# Altium footprint library diy-modules.PCBLIB: 111 footprints (part 1 of 7)
Each footprint in its own frame and in the unit in brackets; x right, y up, seen from the top. Pads: shape width x height; smd on the part's side, far side on the other; paste and mask are expansions set on the pad; w line width, h text height; cw(c..) or ccw(c..) is an arc to the next point about the centre after c.
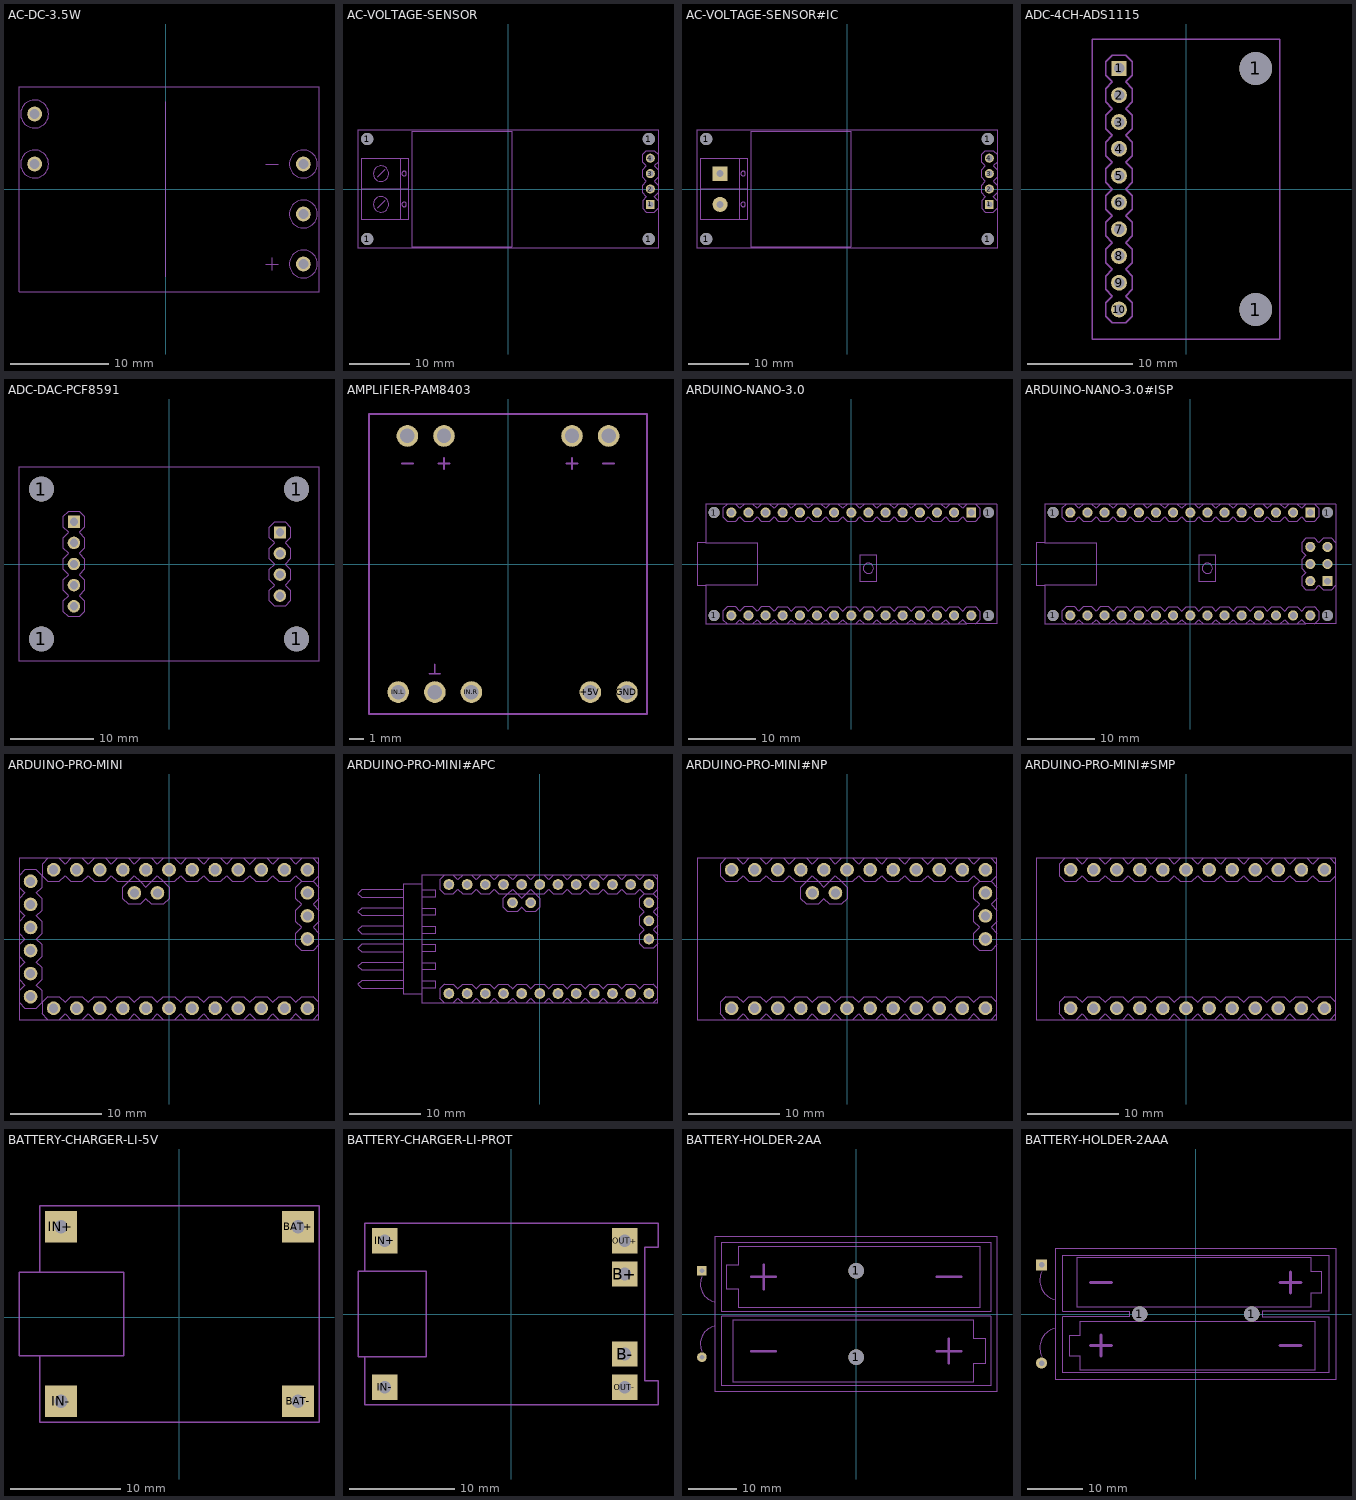
[diagram p0: the footprints below, top view; thin cyan lines are the x and y axes]

## AC-DC-3.5W [mm]
pads (5):
  round 1.5 / inner round 1.524 / far side round 1.5 hole 1: J1.1(-13.335,7.62) J1.2(-13.335,2.54) J2.1(13.97,2.54) J2.2(13.97,-2.54) J2.3(13.97,-7.62)
Mechanical 22:
  circle w0.127: c13.97,-7.62 r1.42
  circle w0.127: c13.97,-2.54 r1.42
  circle w0.127: c13.97,2.54 r1.42
  circle w0.127: c-13.335,2.54 r1.42
  circle w0.127: c-13.335,7.62 r1.42
  lines w0.127: 0,-8.89 0,8.89 ; 10.16,-7.62 11.43,-7.62 ; 10.16,2.54 11.43,2.54 ; 10.795,-8.255 10.795,-6.985 ; -14.922,-10.414 -14.922,10.414 15.557,10.414 15.557,-10.414 -14.922,-10.414

## AC-VOLTAGE-SENSOR [mm]
pads (8):
  round 2 hole 2 unplated: 1(-23.241,-8.255) 1(-23.241,8.255) 1(23.241,-8.255) 1(23.241,8.255)
  rect 1.452x1.452 / inner rect 1.524x1.524 / far side rect 1.452x1.452 hole 1: 1(23.495,-2.54)
  round 1.5 / inner round 1.524 / far side round 1.5 hole 1: 2(23.495,0) 3(23.495,2.54) 4(23.495,5.08)
Mechanical 22:
  circle w0.127: c-20.955,2.54 r1.27
  circle w0.127: c-20.955,-2.54 r1.27
  circle w0.127: c-17.145,2.54 r0.381
  circle w0.127: c-17.145,-2.54 r0.381
  lines w0.127: -21.59,-3.175 -20.32,-1.905 ; -21.59,1.905 -20.32,3.175 ; 24.765,-3.175 24.13,-3.81 22.86,-3.81 22.225,-3.175 22.225,-1.905 22.86,-1.27 22.225,-0.635 22.225,0.635 22.86,1.27 22.225,1.905 22.225,3.175 22.86,3.81 22.225,4.445 22.225,5.715 22.86,6.35 24.13,6.35 24.765,5.715 ; 24.765,-1.905 24.13,-1.27 24.765,-0.635 ; 24.765,0.635 24.13,1.27 24.765,1.905 ; 24.765,3.175 24.13,3.81 24.765,4.445 ; -24.13,0 -24.13,-5.08 -17.78,-5.08 ; -24.13,0 -24.13,5.08 -17.78,5.08 ; -24.13,0 -16.51,0 ; -17.78,-5.08 -16.51,-5.08 -16.51,0 ; -17.78,-5.08 -17.78,5.08 ; -17.78,5.08 -16.51,5.08 -16.51,0 ; -24.765,-9.779 24.765,-9.779 24.765,9.779 -24.765,9.779 -24.765,-9.779 ; -15.875,-9.525 -15.875,9.525 0.635,9.525 0.635,-9.525 -15.875,-9.525

## AC-VOLTAGE-SENSOR#IC [mm]
pads (10):
  round 2 hole 2 unplated: 1(-23.241,-8.255) 1(-23.241,8.255) 1(23.241,-8.255) 1(23.241,8.255)
  rect 1.452x1.452 / inner rect 1.524x1.524 / far side rect 1.452x1.452 hole 1: 1(23.495,-2.54)
  round 1.5 / inner round 1.524 / far side round 1.5 hole 1: 2(23.495,0) 3(23.495,2.54) 4(23.495,5.08)
  rect 2.421x2.421 / inner rect 1.524x1.524 / far side rect 2.421x2.421 hole 1.2: P1.1(-20.955,2.54)
  round 2.5 / inner round 1.524 / far side round 2.5 hole 1.2: P1.2(-20.955,-2.54)
Mechanical 22:
  circle w0.127: c-17.145,2.54 r0.381
  circle w0.127: c-17.145,-2.54 r0.381
  lines w0.127: 24.765,-3.175 24.13,-3.81 22.86,-3.81 22.225,-3.175 22.225,-1.905 22.86,-1.27 22.225,-0.635 22.225,0.635 22.86,1.27 22.225,1.905 22.225,3.175 22.86,3.81 22.225,4.445 22.225,5.715 22.86,6.35 24.13,6.35 24.765,5.715 ; 24.765,-1.905 24.13,-1.27 24.765,-0.635 ; 24.765,0.635 24.13,1.27 24.765,1.905 ; 24.765,3.175 24.13,3.81 24.765,4.445 ; -24.13,0 -24.13,-5.08 -17.78,-5.08 ; -24.13,0 -24.13,5.08 -17.78,5.08 ; -24.13,0 -16.51,0 ; -17.78,-5.08 -16.51,-5.08 -16.51,0 ; -17.78,-5.08 -17.78,5.08 ; -17.78,5.08 -16.51,5.08 -16.51,0 ; -24.765,-9.779 24.765,-9.779 24.765,9.779 -24.765,9.779 -24.765,-9.779 ; -15.875,-9.525 -15.875,9.525 0.635,9.525 0.635,-9.525 -15.875,-9.525

## ADC-4CH-ADS1115 [mm]
pads (12):
  rect 1.452x1.452 / inner rect 1.524x1.524 / far side rect 1.452x1.452 hole 1: 1(-6.35,11.43)
  round 3.1 hole 3.1 unplated: 1(6.604,-11.43) 1(6.604,11.43)
  round 1.5 / inner round 1.524 / far side round 1.5 hole 1: 2(-6.35,8.89) 3(-6.35,6.35) 4(-6.35,3.81) 5(-6.35,1.27) 6(-6.35,-1.27) 7(-6.35,-3.81) 8(-6.35,-6.35) 9(-6.35,-8.89) 10(-6.35,-11.43)
Mechanical 22:
  lines w0.127: -8.89,-14.224 8.89,-14.224 8.89,14.224 -8.89,14.224 -8.89,-14.224 ; -7.62,-12.065 -7.62,-10.795 -6.985,-10.16 -7.62,-9.525 -7.62,-8.255 -6.985,-7.62 -7.62,-6.985 -7.62,-5.715 -6.985,-5.08 -7.62,-4.445 -7.62,-3.175 -6.985,-2.54 -7.62,-1.905 -7.62,-0.635 -6.985,0 -7.62,0.635 -7.62,1.905 -6.985,2.54 -7.62,3.175 -7.62,4.445 -6.985,5.08 -7.62,5.715 -7.62,6.985 -6.985,7.62 -7.62,8.255 -7.62,9.525 -6.985,10.16 -7.62,10.795 -7.62,12.065 -6.985,12.7 -5.715,12.7 -5.08,12.065 -5.08,10.795 -5.715,10.16 -5.08,9.525 -5.08,8.255 -5.715,7.62 -5.08,6.985 -5.08,5.715 -5.715,5.08 -5.08,4.445 -5.08,3.175 -5.715,2.54 -5.08,1.905 -5.08,0.635 -5.715,0 -5.08,-0.635 -5.08,-1.905 -5.715,-2.54 -5.08,-3.175 -5.08,-4.445 -5.715,-5.08 -5.08,-5.715 -5.08,-6.985 -5.715,-7.62 -5.08,-8.255 -5.08,-9.525 -5.715,-10.16 -5.08,-10.795 -5.08,-12.065 -5.715,-12.7 -6.985,-12.7 -7.62,-12.065

## ADC-DAC-PCF8591 [mm]
pads (13):
  round 3 hole 3 unplated: 1(-15.35,-9) 1(-15.35,9) 1(15.35,-9) 1(15.35,9)
  rect 1.452x1.452 / inner rect 1.524x1.524 / far side rect 1.452x1.452 hole 1: J1.1(-11.43,5.08) J2.1(13.335,3.81)
  round 1.5 / inner round 1.524 / far side round 1.5 hole 1: J1.2(-11.43,2.54) J1.3(-11.43,0) J1.4(-11.43,-2.54) J1.5(-11.43,-5.08) J2.2(13.335,1.27) J2.3(13.335,-1.27) J2.4(13.335,-3.81)
Mechanical 22:
  lines w0.127: -18.034,-11.684 18.034,-11.684 18.034,11.684 -18.034,11.684 -18.034,-11.684 ; -12.7,-5.715 -12.065,-6.35 -10.795,-6.35 -10.16,-5.715 -10.16,-4.445 -10.795,-3.81 -10.16,-3.175 -10.16,-1.905 -10.795,-1.27 -10.16,-0.635 -10.16,0.635 -10.795,1.27 -10.16,1.905 -10.16,3.175 -10.795,3.81 -10.16,4.445 -10.16,5.715 -10.795,6.35 -12.065,6.35 -12.7,5.715 -12.7,4.445 -12.065,3.81 -12.7,3.175 -12.7,1.905 -12.065,1.27 -12.7,0.635 -12.7,-0.635 -12.065,-1.27 -12.7,-1.905 -12.7,-3.175 -12.065,-3.81 -12.7,-4.445 -12.7,-5.715 ; 12.065,-4.445 12.7,-5.08 13.97,-5.08 14.605,-4.445 14.605,-3.175 13.97,-2.54 14.605,-1.905 14.605,-0.635 13.97,0 14.605,0.635 14.605,1.905 13.97,2.54 14.605,3.175 14.605,4.445 13.97,5.08 12.7,5.08 12.065,4.445 12.065,3.175 12.7,2.54 12.065,1.905 12.065,0.635 12.7,0 12.065,-0.635 12.065,-1.905 12.7,-2.54 12.065,-3.175 12.065,-4.445

## AMPLIFIER-PAM8403 [mm]
pads (9):
  round 1.5 / inner round 1.524 / far side round 1.5 hole 1: +5V(5.715,-8.89) GND(8.255,-8.89) IN.COM(-5.08,-8.89) IN.L(-7.62,-8.89) IN.R(-2.54,-8.89) OUT.L+(-4.445,8.89) OUT.L-(-6.985,8.89) OUT.R+(4.445,8.89) OUT.R-(6.985,8.89)
Mechanical 22:
  lines w0.127: -7.366,6.985 -6.604,6.985 ; -5.461,-7.62 -4.699,-7.62 ; -5.08,-7.62 -5.08,-6.985 ; -4.826,6.985 -4.064,6.985 ; -4.445,6.604 -4.445,7.366 ; 4.064,6.985 4.826,6.985 ; 4.445,6.604 4.445,7.366 ; 6.604,6.985 7.366,6.985 ; -9.652,-10.414 9.652,-10.414 9.652,10.414 -9.652,10.414 -9.652,-10.414

## ARDUINO-NANO-3.0 [mm]
pads (34):
  round 1.651 hole 1.651 unplated: 1(-20.32,-7.62) 1(-20.32,7.62) 1(20.32,-7.62) 1(20.32,7.62)
  rect 1.452x1.452 / inner rect 1.524x1.524 / far side rect 1.452x1.452 hole 1: J1.1(17.78,7.62)
  round 1.5 / inner round 1.524 / far side round 1.5 hole 1: J1.2(15.24,7.62) J1.3(12.7,7.62) J1.4(10.16,7.62) J1.5(7.62,7.62) J1.6(5.08,7.62) J1.7(2.54,7.62) J1.8(0,7.62) J1.9(-2.54,7.62) J1.10(-5.08,7.62) J1.11(-7.62,7.62) J1.12(-10.16,7.62) J1.13(-12.7,7.62) J1.14(-15.24,7.62) J1.15(-17.78,7.62) J2.1(17.78,-7.62) J2.2(15.24,-7.62) J2.3(12.7,-7.62) J2.4(10.16,-7.62) J2.5(7.62,-7.62) J2.6(5.08,-7.62) J2.7(2.54,-7.62) J2.8(0,-7.62) J2.9(-2.54,-7.62) J2.10(-5.08,-7.62) J2.11(-7.62,-7.62) J2.12(-10.16,-7.62) J2.13(-12.7,-7.62) J2.14(-15.24,-7.62) J2.15(-17.78,-7.62)
Mechanical 22:
  drawing of 209 lines, arcs and shapes, not listed

## ARDUINO-NANO-3.0#ISP [mm]
pads (40):
  round 1.651 hole 1.651 unplated: 1(-20.32,-7.62) 1(-20.32,7.62) 1(20.32,-7.62) 1(20.32,7.62)
  rect 1.452x1.452 / inner rect 1.524x1.524 / far side rect 1.452x1.452 hole 1: J1.1(17.78,7.62) J4.1(20.32,-2.54)
  round 1.5 / inner round 1.524 / far side round 1.5 hole 1: J1.2(15.24,7.62) J1.3(12.7,7.62) J1.4(10.16,7.62) J1.5(7.62,7.62) J1.6(5.08,7.62) J1.7(2.54,7.62) J1.8(0,7.62) J1.9(-2.54,7.62) J1.10(-5.08,7.62) J1.11(-7.62,7.62) J1.12(-10.16,7.62) J1.13(-12.7,7.62) J1.14(-15.24,7.62) J1.15(-17.78,7.62) J2.1(17.78,-7.62) J2.2(15.24,-7.62) J2.3(12.7,-7.62) J2.4(10.16,-7.62) J2.5(7.62,-7.62) J2.6(5.08,-7.62) J2.7(2.54,-7.62) J2.8(0,-7.62) J2.9(-2.54,-7.62) J2.10(-5.08,-7.62) J2.11(-7.62,-7.62) J2.12(-10.16,-7.62) J2.13(-12.7,-7.62) J2.14(-15.24,-7.62) J2.15(-17.78,-7.62) J4.2(17.78,-2.54) J4.3(20.32,0) J4.4(17.78,0) J4.5(20.32,2.54) J4.6(17.78,2.54)
Mechanical 22:
  drawing of 228 lines, arcs and shapes, not listed

## ARDUINO-PRO-MINI [mm]
pads (35):
  round 1.5 / inner round 1.524 / far side round 1.5 hole 1: J1.1(-15.24,6.35) J1.2(-15.24,3.81) J1.3(-15.24,1.27) J1.4(-15.24,-1.27) J1.5(-15.24,-3.81) J1.6(-15.24,-6.35) J2.1(-1.27,5.08) J2.2(-3.81,5.08) J3.1(15.24,0) J3.2(15.24,2.54) J3.3(15.24,5.08) J6.1(-12.7,7.62) J6.2(-10.16,7.62) J6.3(-7.62,7.62) J6.4(-5.08,7.62) J6.5(-2.54,7.62) J6.6(0,7.62) J6.7(2.54,7.62) J6.8(5.08,7.62) J6.9(7.62,7.62) J6.10(10.16,7.62) J6.11(12.7,7.62) J6.12(15.24,7.62) J7.1(15.24,-7.62) J7.2(12.7,-7.62) J7.3(10.16,-7.62) J7.4(7.62,-7.62) J7.5(5.08,-7.62) J7.6(2.54,-7.62) J7.7(0,-7.62) J7.8(-2.54,-7.62) J7.9(-5.08,-7.62) J7.10(-7.62,-7.62) J7.11(-10.16,-7.62) J7.12(-12.7,-7.62)
Mechanical 22:
  drawing of 213 lines, arcs and shapes, not listed

## ARDUINO-PRO-MINI#APC [mm]
pads (29):
  round 1.5 / inner round 1.524 / far side round 1.5 hole 1: J2.1(-1.27,5.08) J2.2(-3.81,5.08) J3.1(15.24,0) J3.2(15.24,2.54) J3.3(15.24,5.08) J6.1(-12.7,7.62) J6.2(-10.16,7.62) J6.3(-7.62,7.62) J6.4(-5.08,7.62) J6.5(-2.54,7.62) J6.6(0,7.62) J6.7(2.54,7.62) J6.8(5.08,7.62) J6.9(7.62,7.62) J6.10(10.16,7.62) J6.11(12.7,7.62) J6.12(15.24,7.62) J7.1(15.24,-7.62) J7.2(12.7,-7.62) J7.3(10.16,-7.62) J7.4(7.62,-7.62) J7.5(5.08,-7.62) J7.6(2.54,-7.62) J7.7(0,-7.62) J7.8(-2.54,-7.62) J7.9(-5.08,-7.62) J7.10(-7.62,-7.62) J7.11(-10.16,-7.62) J7.12(-12.7,-7.62)
Mechanical 22:
  drawing of 232 lines, arcs and shapes, not listed

## ARDUINO-PRO-MINI#NP [mm]
pads (29):
  round 1.5 / inner round 1.524 / far side round 1.5 hole 1: J2.1(-1.27,5.08) J2.2(-3.81,5.08) J3.1(15.24,0) J3.2(15.24,2.54) J3.3(15.24,5.08) J6.1(-12.7,7.62) J6.2(-10.16,7.62) J6.3(-7.62,7.62) J6.4(-5.08,7.62) J6.5(-2.54,7.62) J6.6(0,7.62) J6.7(2.54,7.62) J6.8(5.08,7.62) J6.9(7.62,7.62) J6.10(10.16,7.62) J6.11(12.7,7.62) J6.12(15.24,7.62) J7.1(15.24,-7.62) J7.2(12.7,-7.62) J7.3(10.16,-7.62) J7.4(7.62,-7.62) J7.5(5.08,-7.62) J7.6(2.54,-7.62) J7.7(0,-7.62) J7.8(-2.54,-7.62) J7.9(-5.08,-7.62) J7.10(-7.62,-7.62) J7.11(-10.16,-7.62) J7.12(-12.7,-7.62)
Mechanical 22:
  drawing of 185 lines, arcs and shapes, not listed

## ARDUINO-PRO-MINI#SMP [mm]
pads (24):
  round 1.5 / inner round 1.524 / far side round 1.5 hole 1: J6.1(-12.7,7.62) J6.2(-10.16,7.62) J6.3(-7.62,7.62) J6.4(-5.08,7.62) J6.5(-2.54,7.62) J6.6(0,7.62) J6.7(2.54,7.62) J6.8(5.08,7.62) J6.9(7.62,7.62) J6.10(10.16,7.62) J6.11(12.7,7.62) J6.12(15.24,7.62) J7.1(15.24,-7.62) J7.2(12.7,-7.62) J7.3(10.16,-7.62) J7.4(7.62,-7.62) J7.5(5.08,-7.62) J7.6(2.54,-7.62) J7.7(0,-7.62) J7.8(-2.54,-7.62) J7.9(-5.08,-7.62) J7.10(-7.62,-7.62) J7.11(-10.16,-7.62) J7.12(-12.7,-7.62)
Mechanical 22:
  drawing of 155 lines, arcs and shapes, not listed

## BATTERY-CHARGER-LI-5V [mil]
pads (4):
  rect 114.36x114.36 / inner rect 60x60 / far side rect 114.36x114.36 hole 47.24: BAT+(425,325) BAT-(425,-300) IN+(-425,325) IN-(-425,-300)
Mechanical 22:
  lines w5: -500,-137.5 -500,-375 500,-375 500,400 -500,400 -500,162.5 ; -500,-137.5 -575,-137.5 -575,162.5 -500,162.5 ; -500,-137.5 -200,-137.5 -200,162.5 -500,162.5

## BATTERY-CHARGER-LI-PROT [mil]
pads (6):
  rect 95.3x95.3 / inner rect 60x60 / far side rect 95.3x95.3 hole 47.24: B+(425,150) B-(425,-150) IN+(-475,275) IN-(-475,-275) OUT+(425,275) OUT-(425,-275)
Mechanical 22:
  lines w5: -550,-160 -550,-340 550,-340 550,-250 500,-250 500,250 550,250 550,340 -550,340 -550,160 ; -550,-160 -575,-160 -575,160 -550,160 ; -550,-160 -320,-160 -320,160 -550,160

## BATTERY-HOLDER-2AA [mm]
pads (4):
  round 3.2 hole 3.2 unplated: 1(0,-8.89) 1(0,8.89)
  rect 1.936x1.936 / inner rect 1.524x1.524 / far side rect 1.936x1.936 hole 1: BAT+(-31.75,8.89)
  round 2 / inner round 1.524 / far side round 2 hole 1: BAT-(-31.75,-8.89)
Mechanical 22:
  lines w0.127: -31.75,7.62 ccw(c-28.349,6.146) -29.21,2.54 ; -28.956,-16.002 28.956,-16.002 28.956,16.002 -28.956,16.002 -28.956,-16.002 ; -27.686,-14.732 27.686,-14.732 27.686,-0.508 -27.686,-0.508 -27.686,-14.732 ; -27.686,0.508 -27.686,14.732 27.686,14.732 27.686,0.508 -27.686,0.508 ; -26.67,5.08 -24.13,5.08 -24.13,1.27 25.4,1.27 25.4,13.97 -24.13,13.97 -24.13,10.16 -26.67,10.16 -26.67,5.08
  lines w0.508: -21.59,7.62 -16.51,7.62 ; -19.05,5.08 -19.05,10.16 ; 16.51,7.62 21.59,7.62
Mechanical 23:
  lines w0.127: -31.75,-7.62 cw(c-28.349,-6.146) -29.21,-2.54 ; -25.4,-13.97 -25.4,-1.27 24.13,-1.27 24.13,-5.08 26.67,-5.08 26.67,-10.16 24.13,-10.16 24.13,-13.97 -25.4,-13.97
  lines w0.508: -21.59,-7.62 -16.51,-7.62 ; 16.51,-7.62 21.59,-7.62 ; 19.05,-10.16 19.05,-5.08

## BATTERY-HOLDER-2AAA [mm]
pads (4):
  round 2.8 hole 2.8 unplated: 1(-10.16,0) 1(10.16,0)
  round 2 / inner round 1.524 / far side round 2 hole 1: BAT+(-27.94,-8.89)
  rect 1.936x1.936 / inner rect 1.524x1.524 / far side rect 1.936x1.936 hole 1: BAT-(-27.94,8.89)
Mechanical 22:
  lines w0.127: -27.94,7.62 ccw(c-24.539,6.146) -25.4,2.54 ; -25.4,-11.938 25.4,-11.938 25.4,11.938 -25.4,11.938 -25.4,-11.938 ; -24.13,-10.668 24.13,-10.668 24.13,-0.508 12.065,-0.508 12.065,0.508 24.13,0.508 24.13,10.668 -24.13,10.668 -24.13,0.508 -12.065,0.508 -12.065,-0.508 -24.13,-0.508 -24.13,-10.668 ; -22.86,-7.62 -20.955,-7.62 -20.955,-10.16 21.59,-10.16 21.59,-1.27 -20.955,-1.27 -20.955,-3.81 -22.86,-3.81 -22.86,-7.62
  lines w0.508: -19.05,5.715 -15.24,5.715 ; 15.24,5.715 19.05,5.715 ; 17.145,3.81 17.145,7.62
Mechanical 23:
  lines w0.127: -27.94,-7.62 cw(c-24.539,-6.146) -25.4,-2.54 ; -21.59,1.27 -21.59,10.16 20.955,10.16 20.955,7.62 22.86,7.62 22.86,3.81 20.955,3.81 20.955,1.27 -21.59,1.27
  lines w0.508: -19.05,-5.715 -15.24,-5.715 ; -17.145,-7.62 -17.145,-3.81 ; 15.24,-5.715 19.05,-5.715